# Altium footprint library DIP4_0.4.PcbLib: 1 footprints
Each footprint in its own frame and in the unit in brackets; x right, y up, seen from the top. Pads: shape width x height; smd on the part's side, far side on the other; paste and mask are expansions set on the pad; w line width, h text height; cw(c..) or ccw(c..) is an arc to the next point about the centre after c.
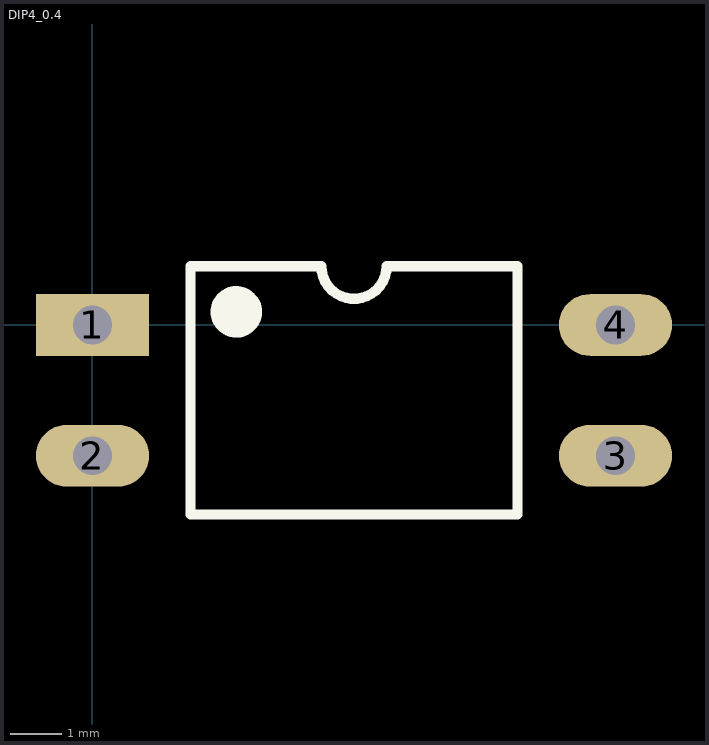
[diagram p0: the footprint, top view; thin cyan lines are the x and y axes]

## DIP4_0.4 [mm]
pads (4):
  rect 2.2x1.2 hole 0.75: 1(0,0)
  oval 2.2x1.2 hole 0.75: 2(0,-2.54) 3(10.16,-2.54) 4(10.16,0)
Top Overlay:
  circle w0.5: c2.794,0.254 r0.25
  lines w0.2: 1.905,-3.683 8.255,-3.683 8.255,1.143 5.715,1.143 cw(c5.08,1.143) 4.445,1.143 1.905,1.143 1.905,-3.683
3D body "DIP-4_400 mil.stp": height 4.23, standoff -2.68, extent -0.13,-3.57 10.29,1.03